# Altium integrated library Allegro Sensor Smoke Detector.IntLib: 1 symbol
Pins are listed as number, name and electrical type; pins without a type are passive.

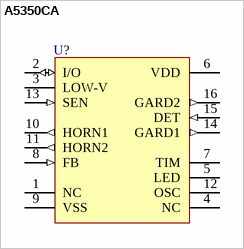
[diagram p0: symbol A5350CA]

## A5350CA
designator U?
Smoke Detector with Interconnect; Published: 13-Oct-2000; LatestRevisionDate: 06-Jun-2005; LatestRevisionNote: Stylized 3D Model Added.; DatasheetVersion: 1995; PackageVersion: 1998; PackageReference: A16; Publisher: Altium Limited; PackageDescription: DIP; 16 Leads; Row Spacing 7.62 mm; Pitch 2.54 mm; Code_JEDEC: MS-001-BB; ComponentLink1Description: Manufacturer Link; ComponentLink1URL: http://www.allegromicro.com/; ComponentLink2Description: Datasheet; ComponentLink2URL: http://www.allegromicro.com/datafile/5350.pdf
footprint A16 (DIP; 16 Leads; Row Spacing 7.62 mm; Pitch 2.54 mm)
3D model A16 (DIP; 16 Leads; Row Spacing 7.62 mm; Pitch 2.54 mm)
pins: 1 NC, 2 I/O (io), 3 LOW-V, 4 NC, 5 LED (oc), 6 VDD (power), 7 TIM, 8 FB (in), 9 VSS (power), 10 HORN1 (out), 11 HORN2 (out), 12 OSC, 13 SEN (in), 14 GARD1 (out), 15 DET (in), 16 GARD2 (out)